# Altium footprint library ESB228.PcbLib: 1 footprints
Each footprint in its own frame and in the unit in brackets; x right, y up, seen from the top. Pads: shape width x height; smd on the part's side, far side on the other; paste and mask are expansions set on the pad; w line width, h text height; cw(c..) or ccw(c..) is an arc to the next point about the centre after c.
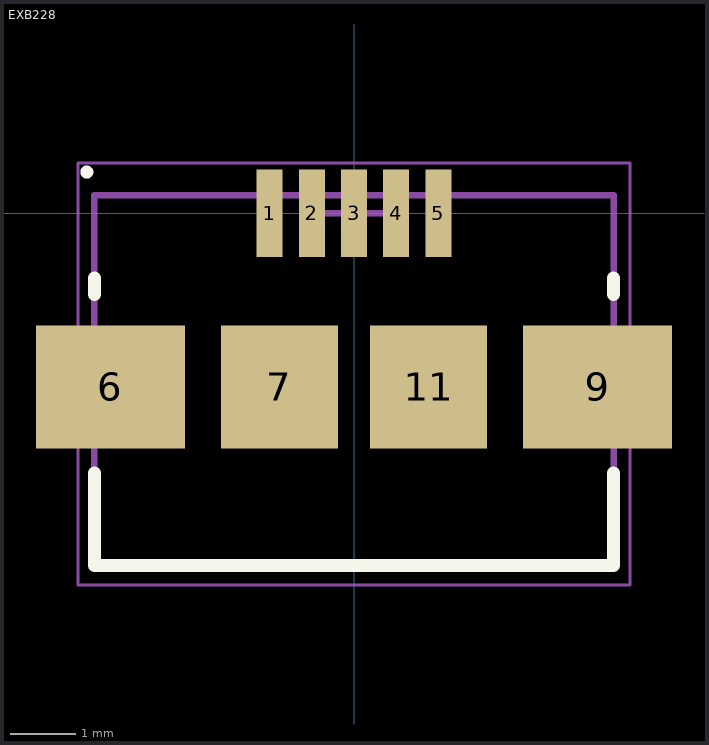
[diagram p0: the footprint, top view; thin cyan lines are the x and y axes]

## EXB228 [mm]
pads (9):
  rect 0.4x1.35 smd: 1(-1.3,0) 2(-0.65,0) 3(0,0) 4(0.65,0) 5(1.3,0)
  rect 2.3x1.9 smd: 6(-3.75,-2.675) 9(3.75,-2.675)
  rect 1.8x1.9 smd: 7(-1.15,-2.675) 11(1.15,-2.675)
Top Overlay:
  circle w0.1: c-4.115,0.635 r0.05
  lines w0.2: -4,-4 -4,-5.425 4,-5.425 4,-4 ; -4,-1.25 -4,-1 ; 4,-1.25 4,-1
Mechanical 13:
  lines w0.1: -4,-5.425 -4,0.275 4,0.275 4,-5.425 -4,-5.425
Mechanical 15:
  lines w0.05: -4.25,-5.725 4.25,-5.725 4.25,0.775 -4.25,0.775 -4.25,-5.725
  lines w0.1: -0.5,0 0.5,0 ; 0,-0.5 0,0.5
3D body "10118192C.stp": height 2.79, standoff -0.22, extent -3.957,-5.41 3.955,0.25